# Altium schematic symbol library INA143U.SchLib: 1 symbol
Pins are listed as number, name and electrical type; pins without a type are passive.

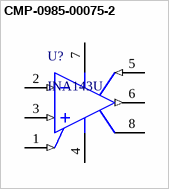
[diagram p0: symbol CMP-0985-00075-2]

## CMP-0985-00075-2
designator U?, comment INA143U
High-Speed, Precision, G = 10 or G = 0.1 Difference Amplifier, -40 to 85 degC, 8-pin SOIC (D8), Green (RoHS & no Sb/Br); Manufacturer: Texas Instruments; Slew Rate(Typ)(V/us): 5; Vs(Max)(V): 36; Input Offset (+/-)(Max)(uV): 250; Vs(Min)(V): 4.5; CMRR(Min)(dB): 86; Gain(V/V): 10; Number of Channels: 1; ComponentLink1Description: Manufacturer URL; PackageVersion: 4040047-3/M, 06/2011; PackageReference: D0008A; ComponentLink3URL: http://www.ti.com/litv/pdf/msoi002j; Code_JEDEC: MS-012; PartNumber: INA143U; ComponentLink1URL: http://www.ti.com/; ComponentLink3Description: Package Specification; PackageDescription: 8-Pin Plastic Small Outline, Body 4.9 x 3.9 mm, Pitch 1.27 mm; ComponentLink2Description: Datasheet; Eco-Plan: Green (RoHS & no Sb/Br); DatasheetVersion: SBOS116; SubFamily: Difference Amplifier; ComponentLink2URL: http://www.ti.com/general/docs/lit/getliterature.tsp?genericPartNumber=INA143&fileType=pdf; Mounting Technology: Surface Mount
footprint D0008A_N (SOIC, 8-Leads, Body 5x4mm, Pitch 1.27mm, IPC Medium Density)
footprint D0008A_L (SOIC, 8-Leads, Body 5x4mm, Pitch 1.27mm, IPC High Density)
footprint D0008A_M (SOIC, 8-Leads, Body 5x4mm, Pitch 1.27mm, IPC Low Density)
pins: 1 REF (in), 2 IN- (in), 3 IN+ (in), 4 V- (power), 5 SENSE (in), 6 OUTPUT (out), 7 V+ (power), 8 NC